# Altium footprint library CMMR1U-06.PcbLib: 1 footprints
Each footprint in its own frame and in the unit in brackets; x right, y up, seen from the top. Pads: shape width x height; smd on the part's side, far side on the other; paste and mask are expansions set on the pad; w line width, h text height; cw(c..) or ccw(c..) is an arc to the next point about the centre after c.
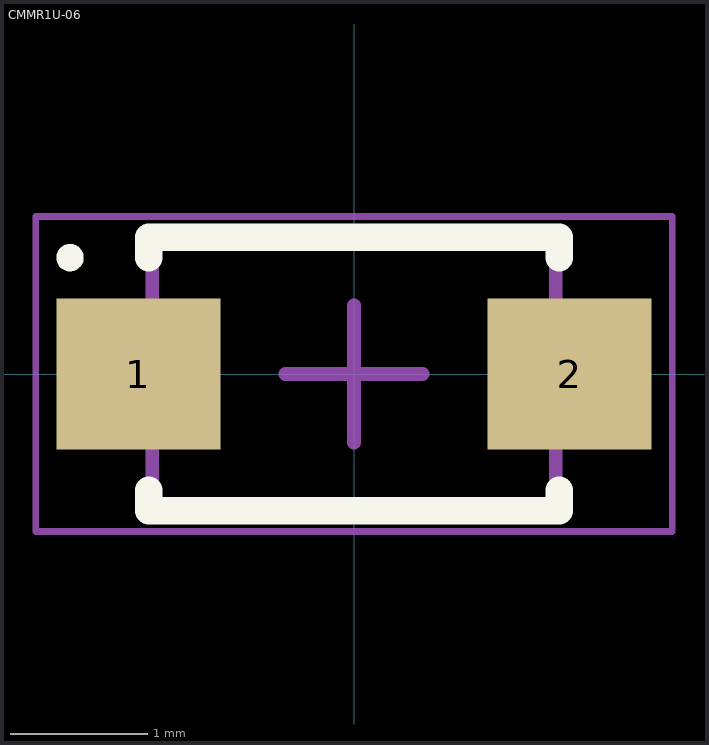
[diagram p0: the footprint, top view; thin cyan lines are the x and y axes]

## CMMR1U-06 [mm] "SODFL, 2-Leads, Body 1.80x3.75mm, IPC Medium Density"
height 1.08
pads (2):
  rect 1.2x1.1 smd: 1(-1.575,0) 2(1.575,0)
Top Overlay:
  circle w0.1: c-2.075,0.85 r0.05
  lines w0.2: -1.5,-0.85 -1.5,-1 1.5,-1 1.5,-0.85 ; -1.5,0.85 -1.5,1 1.5,1 1.5,0.85
Mechanical 13:
  lines w0.1: -1.475,-0.975 -1.475,0.975 1.475,0.975 1.475,-0.975 -1.475,-0.975
Mechanical 15:
  lines w0.05: -2.325,-1.15 -2.325,1.15 2.325,1.15 2.325,-1.15 -2.325,-1.15
  lines w0.1: -0.5,0 0.5,0 ; 0,-0.5 0,0.5
3D body "CMMR1U-06-.step": height 1.08, standoff 0, extent -1.875,-0.975 1.875,0.975